# EAGLE library part AD711 (library yapo)
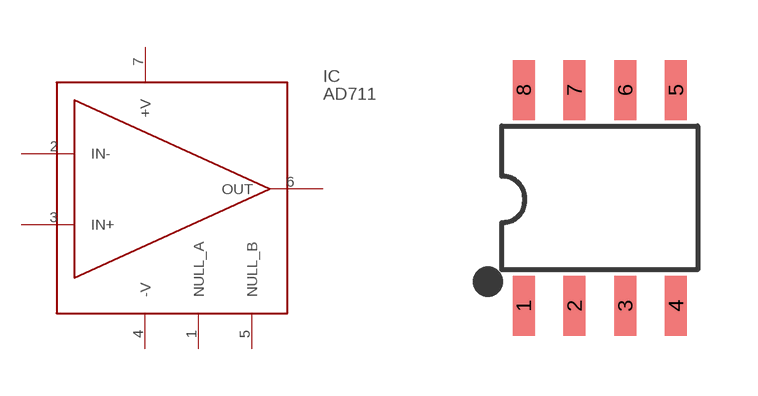
[diagram p61: symbol with the pads of SOIC8; footprint SOIC8]

Designator prefix IC

## AD711  [SOIC8]
1  NULL_A
2  IN-
3  IN+
4  -V
5  NULL_B
6  OUT
7  +V

## Footprint SOIC8 (pad centres in mm)
smd 0.55 x 1.5: 1 -1.905,-2.7; 2 -0.635,-2.7; 3 0.635,-2.7; 4 1.905,-2.7; 5 1.905,2.7; 6 0.635,2.7; 7 -0.635,2.7; 8 -1.905,2.7